# Altium schematic symbol library PMIC.SchLib: 6 symbols
Pins are listed as number, name and electrical type; pins without a type are passive.

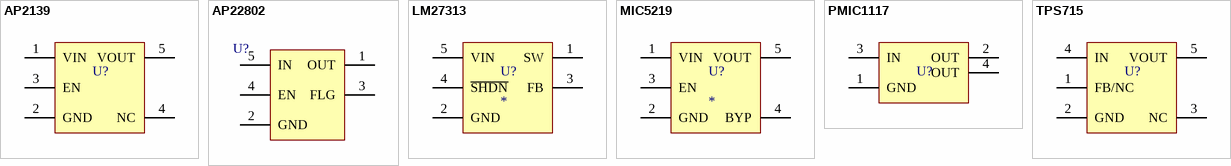
[diagram p0: symbols AP2139 to TPS715]

## AP2139
designator U?  (value not drawn)
=description
pins: 1 VIN (power), 2 GND (power), 3 EN, 4 NC, 5 VOUT (power)

## AP22802
designator U?  (value not drawn)
=description
pins: 1 OUT (power), 2 GND (power), 3 FLG, 4 EN, 5 IN (power)

## LM27313
designator U?
=description
pins: 1 SW (power), 2 GND (power), 3 FB, 4 ~{SHDN}, 5 VIN (power)

## MIC5219
designator U?
=description
pins: 1 VIN (power), 2 GND (power), 3 EN, 4 BYP, 5 VOUT (power)

## PMIC1117
designator U?  (value not drawn)
=description
pins: 1 GND (power), 2 OUT (power), 3 IN (power), 4 OUT (power)

## TPS715
designator U?  (value not drawn)
=description
pins: 1 FB/NC, 2 GND (power), 3 NC, 4 IN, 5 VOUT (power)